# Altium footprint library Condicionamiento de señal.PcbLib: 1 footprints
Each footprint in its own frame and in the unit in brackets; x right, y up, seen from the top. Pads: shape width x height; smd on the part's side, far side on the other; paste and mask are expansions set on the pad; w line width, h text height; cw(c..) or ccw(c..) is an arc to the next point about the centre after c.
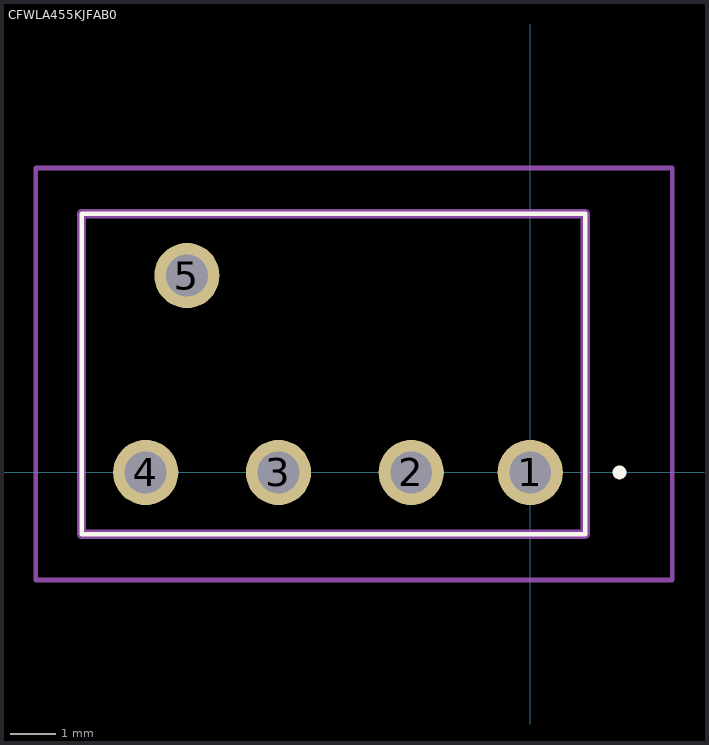
[diagram p0: the footprint, top view; thin cyan lines are the x and y axes]

## CFWLA455KJFAB0 [mm]
pads (5):
  round 1.425 hole 0.916: 1(0,0) 2(-2.6,0) 3(-5.5,0) 4(-8.4,0) 5(-7.5,4.3)
Top Overlay:
  lines w0.1: -9.8,-1.35 1.2,-1.35 1.2,5.65 -9.8,5.65 -9.8,-1.35
  lines w0.2: 1.9,0 cw(c1.95,0) 2,0 ; 1.9,0 ccw(c1.95,0) 2,0 ; 1.9,0 cw(c1.95,0) 2,0
Mechanical 13:
  lines w0.2: -9.8,-1.35 1.2,-1.35 1.2,5.65 -9.8,5.65 -9.8,-1.35
Mechanical 15:
  lines w0.1: -10.8,-2.35 3.1,-2.35 3.1,6.65 -10.8,6.65 -10.8,-2.35
3D body "CFWLA455KJFA-B0.stp": height 8.1, standoff -5, extent -9.8,-1.35 1.2,5.65